# Altium schematic symbol library TPS792.SchLib: 1 symbol
Pins are listed as number, name and electrical type; pins without a type are passive.

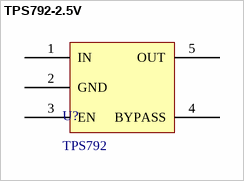
[diagram p0: symbol TPS792-2.5V]

## TPS792-2.5V
designator U?, comment TPS792
footprint SOT23-5N (3x1.6x1.1mm(长宽高))
pins: 1 IN, 2 GND, 3 EN, 4 BYPASS, 5 OUT